# EAGLE library part 22-23-2071 (library 22-23-2071)
.100" (2.54mm) Center Header - 7 Pin
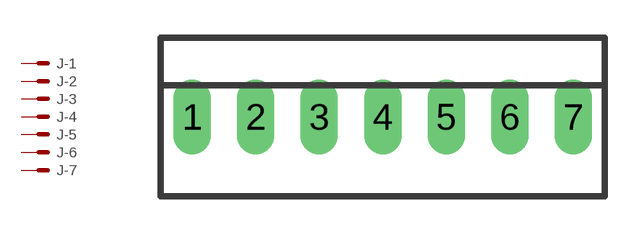
[diagram p0: symbol with the pads of 22-23-2071; footprint 22-23-2071]

Designator prefix J; gates -1=M -2=M -3=M -4=M -5=M -6=M -7=M

## 22-23-2071 (DESCRIPTION: KK® 254 Solid Header, Vertical, with Friction Lock, 7 Circuits, Tin _Sn_ Plating; MFR: Molex; MPN: 22-23-2071)  [22-23-2071]
1  -1:S  pas
2  -2:S  pas
3  -3:S  pas
4  -4:S  pas
5  -5:S  pas
6  -6:S  pas
7  -7:S  pas

## Footprint 22-23-2071 (pad centres in mm)
.100" (2.54mm) Center Header - 7 Pin
drill 1 long: 1 -7.62,0; 2 -5.08,0; 3 -2.54,0; 4 0,0; 5 2.54,0; 6 5.08,0; 7 7.62,0